# EAGLE library part ADG704BRMZ (library ADG704BRMZ)
ADG704BRMZ, Multiplexer Single 4:1, 3, 5V, 10-Pin, MSOP Source: Datasheet <https://datasheet.datasheetarchive.com/originals/distributors/Datasheets-4/DSA-69549.pdf>
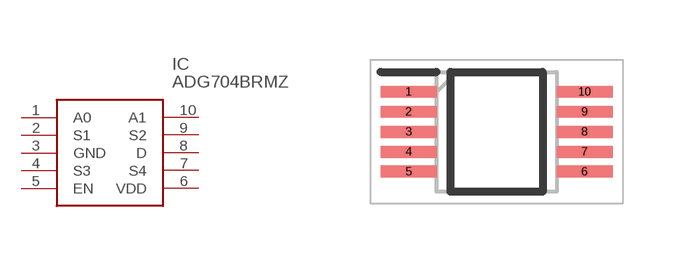
[diagram p0: symbol with the pads of SOP50P490X110-10N; footprint SOP50P490X110-10N]

Designator prefix IC

## ADG704BRMZ (Description: ADG704BRMZ, Multiplexer Single 4:1, 3, 5V, 10-Pin, MSOP; Height: 1.1mm; Manufacturer_Name: Analog Devices; Manufacturer_Part_Number: ADG704BRMZ; Mouser_Part_Number: 584-ADG704BRMZ; Mouser_Price-Stock: https://www.mouser.co.uk/ProductDetail/Analog-Devices/ADG704BRMZ?qs=BpaRKvA4VqEkN1EGAKO1Aw%3D%3D)  [SOP50P490X110-10N]
1  A0
2  S1
3  GND
4  S3
5  EN
6  VDD
7  S4
8  D
9  S2
10  A1

## Footprint SOP50P490X110-10N (pad centres in mm)
MSOP-8-(RM-10)
smd 1.4 x 0.3: 1 -2.2,1; 2 -2.2,0.5; 3 -2.2,0; 4 -2.2,-0.5; 5 -2.2,-1; 6 2.2,-1; 7 2.2,-0.5; 8 2.2,0; 9 2.2,0.5; 10 2.2,1